# EAGLE library part SENSOR-SHT15 (library Module)
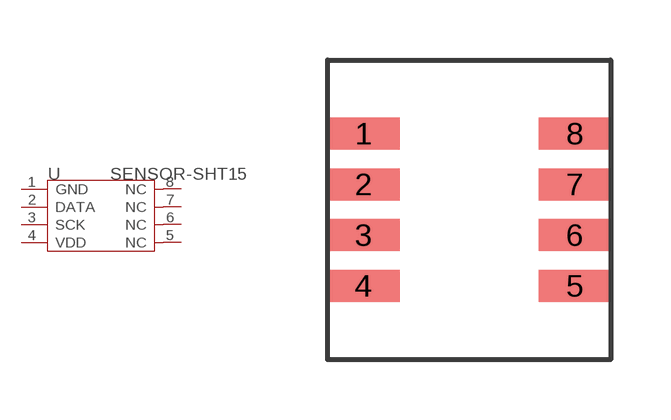
[diagram p19: symbol with the pads of 8P-SMD-1.27-7.5X7.08; footprint 8P-SMD-1.27-7.5X7.08]

Designator prefix U

## SENSOR-SHT15  [8P-SMD-1.27-7.5X7.08]
1  GND  sup
2  DATA
3  SCK
4  VDD  sup
5  NC  nc
6  NC
7  NC
8  NC

## Footprint 8P-SMD-1.27-7.5X7.08 (pad centres in mm)
smd 1.8 x 0.8: 1 -2.64,1.905; 2 -2.64,0.635; 3 -2.64,-0.635; 4 -2.64,-1.905; 5 2.64,-1.905; 6 2.64,-0.635; 7 2.64,0.635; 8 2.64,1.905